# Altium integrated library ALTIUM-WR-DC_POWER_JACK_CONNECTORS-rev16b.IntLib: 18 symbols
Pins are listed as number, name and electrical type; pins without a type are passive.

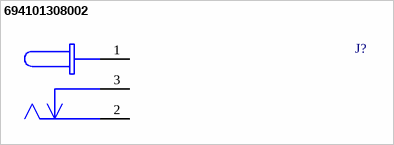
[diagram p0: symbol 694101308002]

## 694101308002
designator J?
WR-DC DC Power Jack THT Right Angled Low Profile(2.8); PartNumber: 694101308002; Published: June 2016; Publisher: Wurth Elektronik; ComponentLink1Description: Manufacturer; ComponentLink1URL: http://www.we-online.de; ComponentLink2Description: Datasheet; ComponentLink2URL: http://katalog.we-online.de/em/datasheet/694101308002.pdf
footprint 694101308002 (WR-DC_DC Power Jack_Right Angled_THT Center Pin ?0.65_Plug ID ?0.75_Plug OD ?2.35_with Peg)
pins: 1, 2, 3


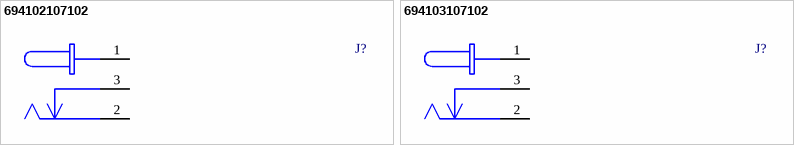
[diagram p1: symbols 694102107102 to 694103107102]

## 694102107102
designator J?
WR-DC DC Power Jack Right Angled Low Profile SMT Ø3.9 with 4 soldering pads & pegs; PartNumber: 694102107102; Published: June 2016; Publisher: Wurth Elektronik; ComponentLink1Description: Manufacturer; ComponentLink1URL: http://www.we-online.de; ComponentLink2Description: Datasheet; ComponentLink2URL: http://katalog.we-online.de/em/datasheet/6941xx107102.pdf
footprint 694102107102 (WR-DC_DC Power Jack_Right Angled_SMT Center Pin ?1.0_Plug ID ?1.05_Plug OD ?3.5_with 4 Soldering Pad & Peg)
pins: 1, 2, 3

## 694103107102
designator J?
WR-DC DC Power Jack Right Angled Low Profile SMT Ø3.9 with 4 soldering pads & pegs; PartNumber: 694103107102; Published: June 2016; Publisher: Wurth Elektronik; ComponentLink1Description: Manufacturer; ComponentLink1URL: http://www.we-online.de; ComponentLink2Description: Datasheet; ComponentLink2URL: http://katalog.we-online.de/em/datasheet/6941xx107102.pdf
footprint 694103107102 (WR-DC_DC Power Jack_Right Angled_SMT Center Pin ?1.3_Plug ID ?1.35_Plug OD ?3.5_with 4 Soldering Pad & Peg)
pins: 1, 2, 3


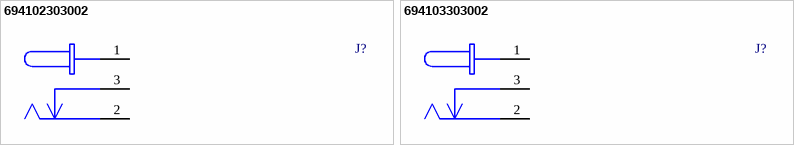
[diagram p2: symbols 694102303002 to 694103303002]

## 694102303002
designator J?
WR-DC DC Power Jack Right Angled(4.2); PartNumber: 694102303002; Published: June 2016; Publisher: Wurth Elektronik; ComponentLink1Description: Manufacturer; ComponentLink1URL: http://www.we-online.de; ComponentLink2Description: Datasheet; ComponentLink2URL: http://katalog.we-online.de/em/datasheet/6941xx303002.pdf
footprint 694102303002 (WR-DC_DC Power Jack_Right Angled_THT Center Pin ?1.0_Plug ID ?1.05_Plug OD ?3.5)
pins: 1, 2, 3

## 694103303002
designator J?
WR-DC DC Power Jack Right Angled(4.2); PartNumber: 694103303002; Published: June 2016; Publisher: Wurth Elektronik; ComponentLink1Description: Manufacturer; ComponentLink1URL: http://www.we-online.de; ComponentLink2Description: Datasheet; ComponentLink2URL: http://katalog.we-online.de/em/datasheet/6941xx303002.pdf
footprint 694103303002 (WR-DC_DC Power Jack_Right Angled_THT Center Pin ?1.3_Plug ID ?1.35_Plug OD ?3.5)
pins: 1, 2, 3


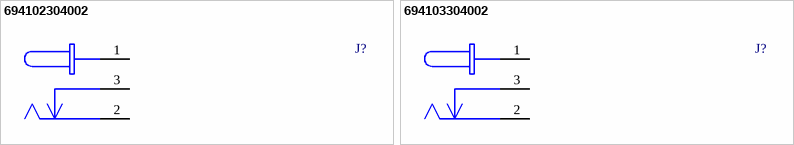
[diagram p3: symbols 694102304002 to 694103304002]

## 694102304002
designator J?
WR-DC DC Power Jack THT Right Angled Low Profile(3.8); PartNumber: 694102304002; Published: June 2016; Publisher: Wurth Elektronik; ComponentLink1Description: Manufacturer; ComponentLink1URL: http://www.we-online.de; ComponentLink2Description: Datasheet; ComponentLink2URL: http://katalog.we-online.de/em/datasheet/6941xx304002.pdf
footprint 694102304002 (WR-DC_DC Power Jack_Right Angled_THT Center Pin ?1.0_Plug ID ?1.05_Plug OD ?3.5_with Peg)
pins: 1, 2, 3

## 694103304002
designator J?
WR-DC DC Power Jack THT Right Angled Low Profile(3.8); PartNumber: 694103304002; Published: June 2016; Publisher: Wurth Elektronik; ComponentLink1Description: Manufacturer; ComponentLink1URL: http://www.we-online.de; ComponentLink2Description: Datasheet; ComponentLink2URL: http://katalog.we-online.de/em/datasheet/6941xx304002.pdf
footprint 694103304002 (WR-DC_DC Power Jack_Right Angled_THT Center Pin ?1.3_Plug ID ?1.35_Plug OD ?3.5_with Peg)
pins: 1, 2, 3


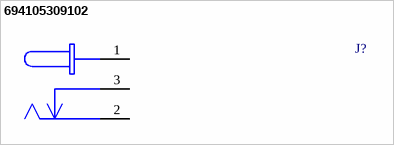
[diagram p4: symbol 694105309102]

## 694105309102
designator J?
WR-DC DC Power Jack Right Angled Shielded THT Ø4.93; PartNumber: 694105309102; Published: June 2016; Publisher: Wurth Elektronik; ComponentLink1Description: Manufacturer; ComponentLink1URL: http://www.we-online.de; ComponentLink2Description: Datasheet; ComponentLink2URL: http://katalog.we-online.de/em/datasheet/694105309102.pdf
footprint 694105309102 (WR-DC_DC Power Jack_Right Angled_Shielded_THT Center Pin ?1.65_Plug ID ?1.75_Plug OD 4.75)
pins: 1, 2, 3


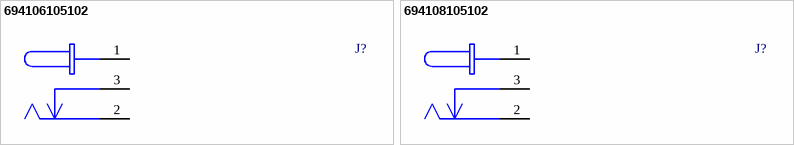
[diagram p5: symbols 694106105102 to 694108105102]

## 694106105102
designator J?
WR-DC DC Power Jack Right Angled SMT Ø6.4 with pegs; PartNumber: 694106105102; Published: June 2016; Publisher: Wurth Elektronik; ComponentLink1Description: Manufacturer; ComponentLink1URL: http://www.we-online.de; ComponentLink2Description: Datasheet; ComponentLink2URL: http://katalog.we-online.de/em/datasheet/6941xx105102.pdf
footprint 694106105102 (WR-DC_DC Power Jack_Right Angled_SMT Center Pin ?2.0_Plug ID ?2.05_Plug OD ?5.5_with Peg)
pins: 1, 2, 3

## 694108105102
designator J?
WR-DC DC Power Jack Right Angled SMT Ø6.4 with pegs; PartNumber: 694108105102; Published: June 2016; Publisher: Wurth Elektronik; ComponentLink1Description: Manufacturer; ComponentLink1URL: http://www.we-online.de; ComponentLink2Description: Datasheet; ComponentLink2URL: http://katalog.we-online.de/em/datasheet/6941xx105102.pdf
footprint 694108105102 (WR-DC_DC Power Jack_Right Angled_SMT Center Pin ?2.5_Plug ID ?2.55_Plug OD ?5.5_with Peg)
pins: 1, 2, 3


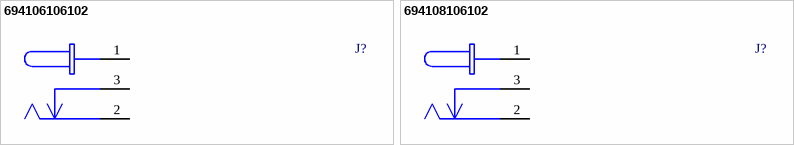
[diagram p6: symbols 694106106102 to 694108106102]

## 694106106102
designator J?
WR-DC DC Power Jack Right Angled SMT Ø6.4 with 4 soldering pads & pegs; PartNumber: 694106106102; Published: June 2016; Publisher: Wurth Elektronik; ComponentLink1Description: Manufacturer; ComponentLink1URL: http://www.we-online.de; ComponentLink2Description: Datasheet; ComponentLink2URL: http://katalog.we-online.de/em/datasheet/6941xx106102.pdf
footprint 694106106102 (WR-DC_DC Power Jack_Right Angled_SMT Center Pin ?2.0_Plug ID ?2.05_Plug OD ?5.5_with 4 Soldering Pag & Peg)
pins: 1, 2, 3

## 694108106102
designator J?
WR-DC DC Power Jack Right Angled SMT Ø6.4 with 4 soldering pads & pegs; PartNumber: 694108106102; Published: June 2016; Publisher: Wurth Elektronik; ComponentLink1Description: Manufacturer; ComponentLink1URL: http://www.we-online.de; ComponentLink2Description: Datasheet; ComponentLink2URL: http://katalog.we-online.de/em/datasheet/6941xx106102.pdf
footprint 694108106102 (WR-DC_DC Power Jack_Right Angled_SMT Center Pin ?2.5_Plug ID ?2.55_Plug OD ?5.5_with 4 Soldering Pad & Peg)
pins: 1, 2, 3


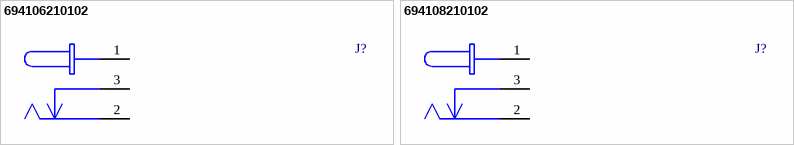
[diagram p7: symbols 694106210102 to 694108210102]

## 694106210102
designator J?
WR-DC DC Power Jack Connector Vertical SMT Ø5.5 w.3 Solder Pads; PartNumber: 694106210102; Published: June 2016; Publisher: Wurth Elektronik; ComponentLink1Description: Manufacturer; ComponentLink1URL: http://www.we-online.de; ComponentLink2Description: Datasheet; ComponentLink2URL: http://katalog.we-online.de/em/datasheet/6941xx210102.pdf
footprint 694106210102 (DC POWER JACK - VERTICAL- THT - ? 2.0 & 2.5)
pins: 1, 2, 3

## 694108210102
designator J?
WR-DC DC Power Jack Connector Vertical SMT Ø5.5 w.3 Solder Pads; PartNumber: 694108210102; Published: June 2016; Publisher: Wurth Elektronik; ComponentLink1Description: Manufacturer; ComponentLink1URL: http://www.we-online.de; ComponentLink2Description: Datasheet; ComponentLink2URL: http://katalog.we-online.de/em/datasheet/6941xx210102.pdf
footprint 694108210102 (DC POWER JACK - VERTICAL- THT - ? 2.0 & 2.5)
pins: 1, 2, 3


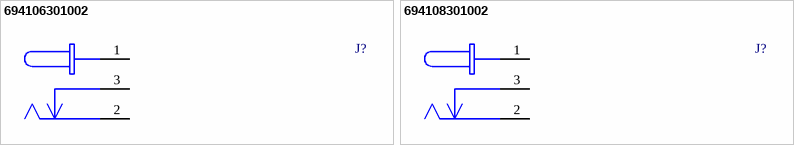
[diagram p8: symbols 694106301002 to 694108301002]

## 694106301002
designator J?
WR-DC DC Power Jack Right Angled(6.4); PartNumber: 694106301002; Published: June 2016; Publisher: Wurth Elektronik; ComponentLink1Description: Manufacturer; ComponentLink1URL: http://www.we-online.de; ComponentLink2Description: Datasheet; ComponentLink2URL: http://katalog.we-online.de/em/datasheet/6941xx301002.pdf
footprint 694106301002 (WR-DC_DC Power Jack_Right Angled_THT Center Pin ?2.0_Plug ID ?2.05_Plug OD ?5.5)
pins: 1, 2, 3

## 694108301002
designator J?
WR-DC DC Power Jack Right Angled(6.4); PartNumber: 694108301002; Published: June 2016; Publisher: Wurth Elektronik; ComponentLink1Description: Manufacturer; ComponentLink1URL: http://www.we-online.de; ComponentLink2Description: Datasheet; ComponentLink2URL: http://katalog.we-online.de/em/datasheet/6941xx301002.pdf
footprint 694108301002 (WR-DC_DC Power Jack_Right Angled_THT Center Pin ?2.5_Plug ID ?2.05_Plug OD ?5.5)
pins: 1, 2, 3


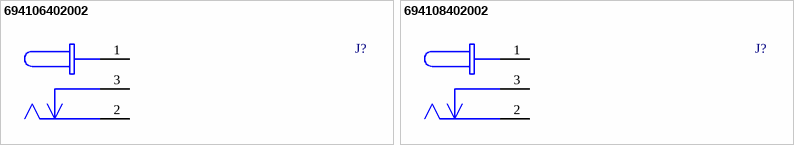
[diagram p9: symbols 694106402002 to 694108402002]

## 694106402002
designator J?
WR-DC DC Power Jack Vertical THT Ø6.4; PartNumber: 694106402002; Published: June 2016; Publisher: Wurth Elektronik; ComponentLink1Description: Manufacturer; ComponentLink1URL: http://www.we-online.de; ComponentLink2Description: Datasheet; ComponentLink2URL: http://katalog.we-online.de/em/datasheet/6941xx402002.pdf
footprint 694106402002 (WR-DC_DC Power Jack_Vertical_THT WR-DC_DC Power Jack_Vertical_THT)
pins: 1, 2, 3

## 694108402002
designator J?
WR-DC DC Power Jack Vertical THT Ø6.4; PartNumber: 694108402002; Published: June 2016; Publisher: Wurth Elektronik; ComponentLink1Description: Manufacturer; ComponentLink1URL: http://www.we-online.de; ComponentLink2Description: Datasheet; ComponentLink2URL: http://katalog.we-online.de/em/datasheet/6941xx402002.pdf
footprint 694108402002 (WR-DC_DC Power Jack_Vertical_THT Center Pin ?2.5_Plug ID ?2.55_Plug OD ?5.5)
pins: 1, 2, 3